# EAGLE library part 7SG-18 (library chuong)
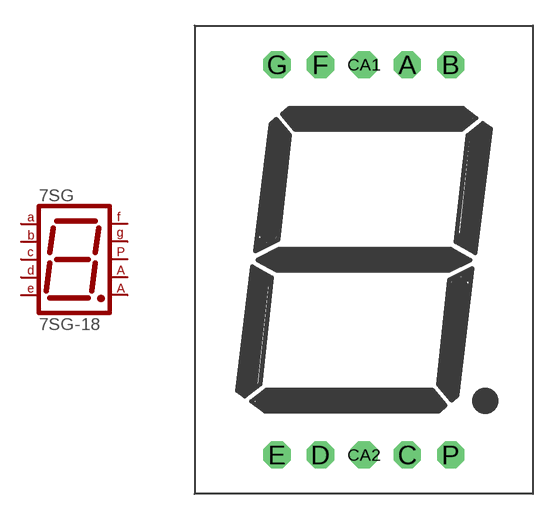
[diagram p3: symbol with the pads of 7SG-18; footprint 7SG-18]

Designator prefix 7SG

## 7SG-18  [7SG-18]
A  A  pas
B  B  pas
C  C  pas
CA1  CA1  pas
CA2  CA2  pas
D  D  pas
E  E  pas
F  F  pas
G  G  pas
P  DP  pas

## Footprint 7SG-18 (pad centres in mm)
drill 0.61 pad 1.6 octagon: A 12.7,25.4; B 15.24,25.4; C 12.7,2.54; CA1 10.16,25.4; CA2 10.16,2.54; D 7.62,2.54; E 5.08,2.54; F 7.62,25.4; G 5.08,25.4; P 15.24,2.54